# Altium footprint library PCBLibSynthe.PcbLib: 35 footprints (part 3 of 3)
Each footprint in its own frame and in the unit in brackets; x right, y up, seen from the top. Pads: shape width x height; smd on the part's side, far side on the other; paste and mask are expansions set on the pad; w line width, h text height; cw(c..) or ccw(c..) is an arc to the next point about the centre after c.
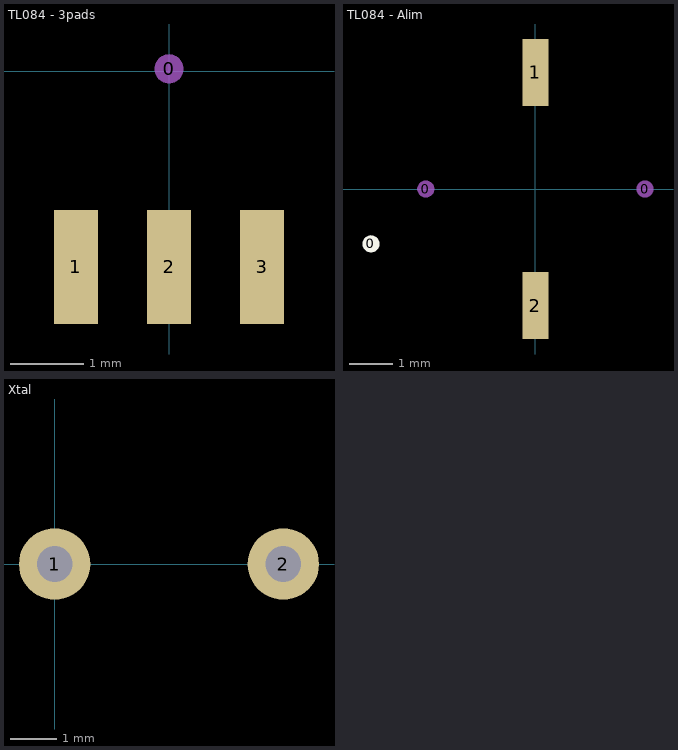
[diagram p2: the footprints below, top view; thin cyan lines are the x and y axes]

## TL084 - 3pads [mm] "Ampli-op"
pads (4):
  round 0.4 on Mech1: 0(0,0.033)
  rect 0.6x1.55 smd: 1(-1.27,-2.667) 2(0,-2.667) 3(1.27,-2.667)

## TL084 - Alim [mm] "Ampli-op"
pads (5):
  round 0.4 on Top Overlay: 0(-3.81,-1.27)
  round 0.4 on Mech1: 0(-2.54,0) 0(2.54,0)
  rect 0.6x1.55 smd: 1(0,2.7) 2(0,-2.7)

## Xtal [mil]
pads (2):
  round 60 hole 30: 1(0,0) 2(192.13,0)